# EAGLE library part VL53L0X (library FlashPCB_Sensors)
VL53L0X - VL53L0X Time of Flight Distance Sensor 30 to 1000mm Technical Specifications: Laser: 940nm VCSEL Range: Up to 2m Component Search: [DATA SHEET NAME] <[FLASHPCB URL]> Datasheet: WorldÃƒÆ’Ã‚Â¢ÃƒÂ¢Ã¢â‚¬Å¡Ã‚Â¬ÃƒÂ¢Ã¢â‚¬Å¾Ã‚Â¢s smallest Time-of-Flight ranging and gesture detection senso <https://www.st.com/content/ccc/resource/technical/document/datasheet/group3/b2/1e/33/77/c6/92/47/6b/DM00279086/files/DM00279086.pdf/jcr:content/translations/en.DM00279086.pdf>
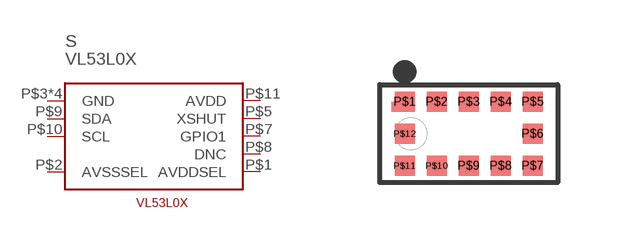
[diagram p30: symbol with the pads of VL53L0X; footprint VL53L0X]

Designator prefix S

## VL53L0X  [VL53L0X]
P$1  AVDDSEL  pwr
P$2  AVSSSEL  pwr
P$3  GND  pwr
P$4  GND  pwr
P$5  XSHUT
P$6  GND  pwr
P$7  GPIO1
P$8  DNC  nc
P$9  SDA
P$10  SCL
P$11  AVDD  pwr
P$12  GND  pwr

## Footprint VL53L0X (pad centres in mm)
smd 0.5 x 0.5: P$1 -1.6,0.8; P$2 -0.8,0.8; P$3 0,0.8; P$4 0.8,0.8; P$5 1.6,0.8; P$6 1.6,0; P$7 1.6,-0.8; P$8 0.8,-0.8; P$9 0,-0.8; P$10 -0.8,-0.8; P$11 -1.6,-0.8; P$12 -1.6,0